# Altium schematic symbol library FL0800011Q.SchLib: 1 symbol
Pins are listed as number, name and electrical type; pins without a type are passive.

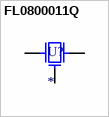
[diagram p0: symbol FL0800011Q]

## FL0800011Q
designator U?
footprint FL0800011Q
pins: 1, 3 2, 4 GND